# Altium integrated library Analog Devices Data Converters Analog-to-Digital Converters.IntLib: 2400 symbols (part 336 of 338)
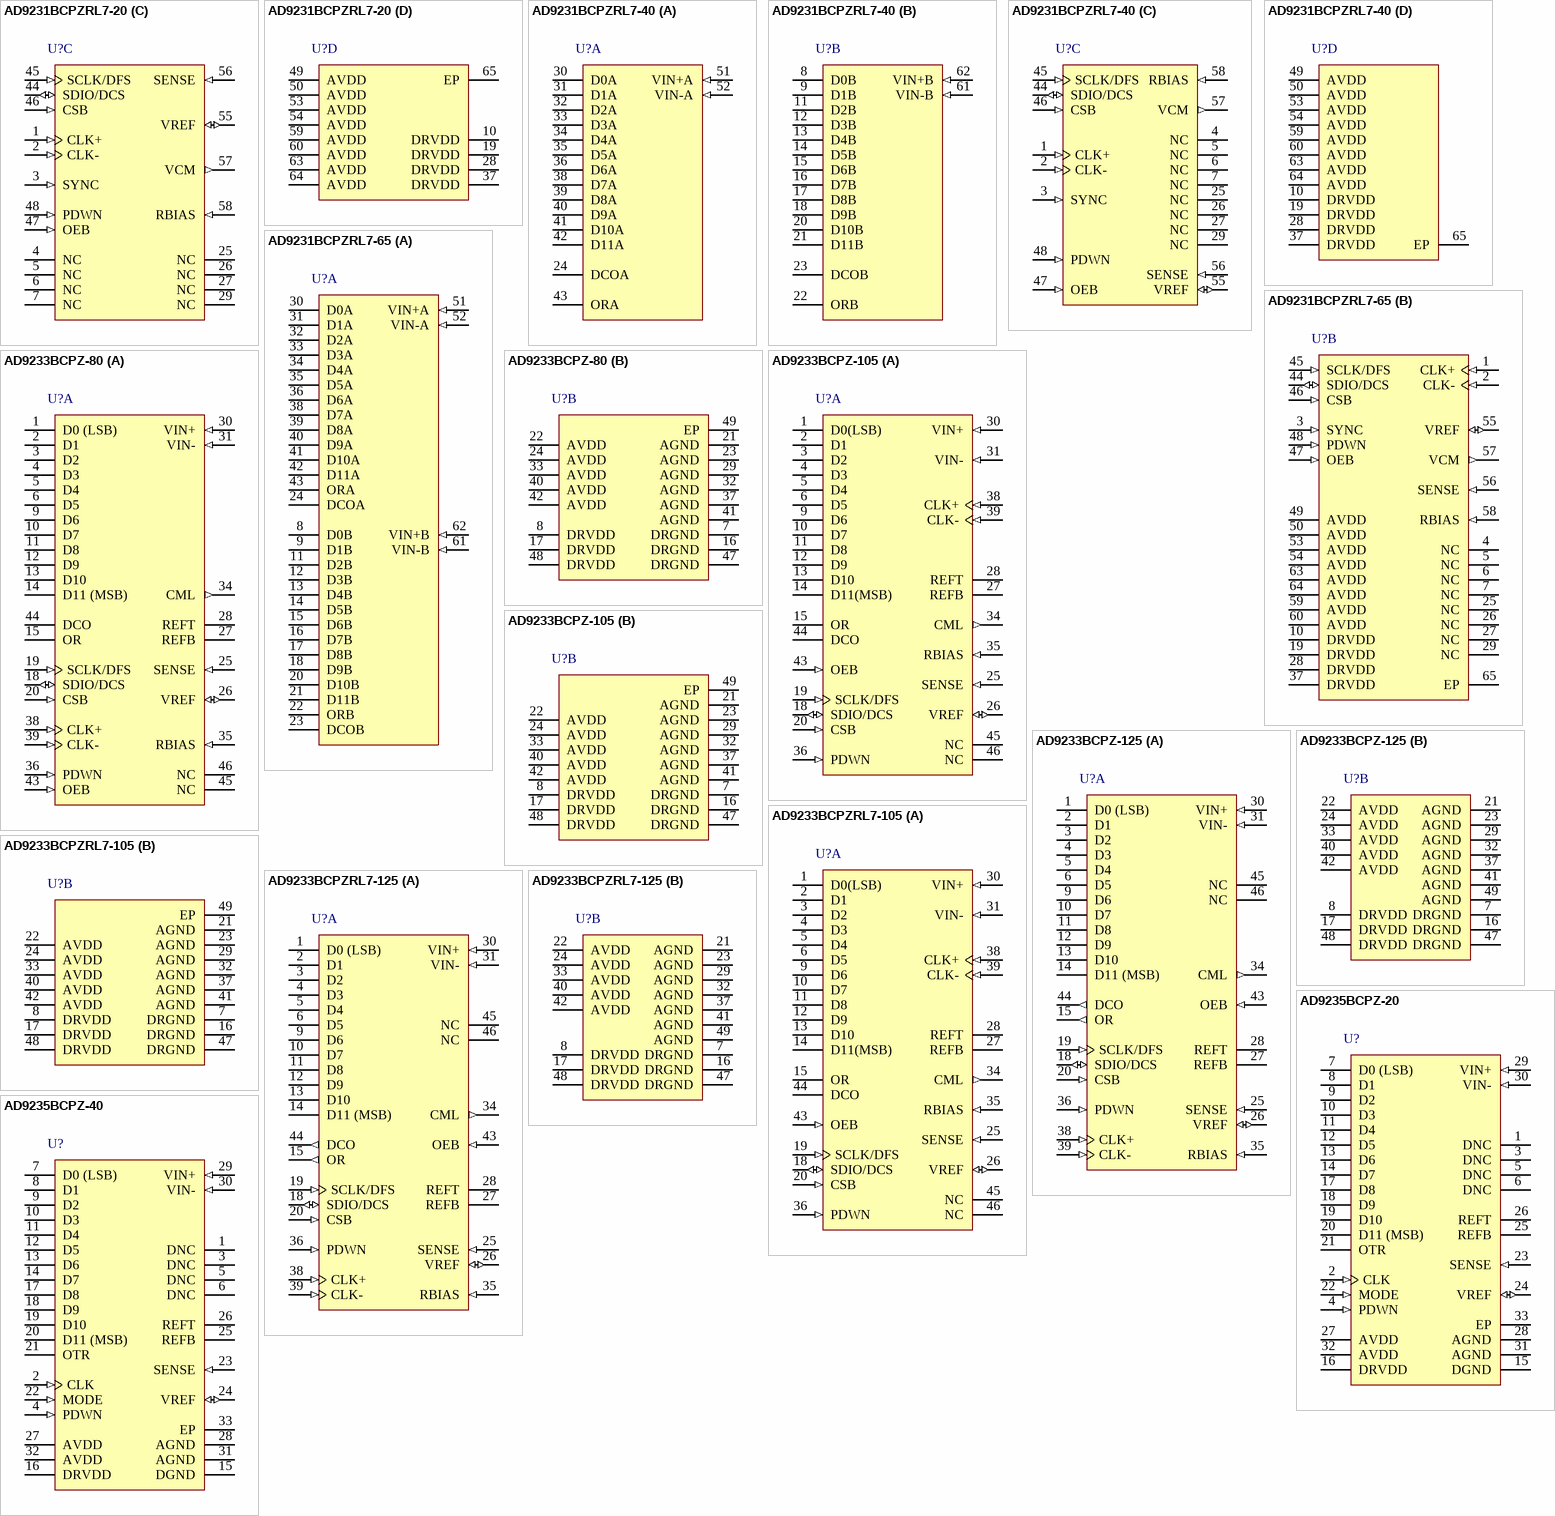
[diagram p437: symbols AD9231BCPZRL7-20 to AD9235BCPZ-40]

## AD9233BCPZRL7-105
designator U?
Single 12-Bit Analog-to-Digital Converter with Parallel Interface, 1.8 V, 105MSPS, -40 to +85 degC, CP-48-3, Pb-Free, Reel; Part Number: AD9233-105; Manufacturer: Analog Devices; Resolution (Bits): 12; Channels: 1; Throughput Rate (SPS): 105M; Interface: Par; DatasheetVersion: Rev.A; PackageVersion: 2005; PackageReference: CP-48-3; PackageDescription: 48-Lead Lead Frame Chip Scale Package [LFCSP_VQ] 7 x 7 mm Body, Very Thin Quad; RoHS: Y; Packing: Reel; Mounting Technology: Surface Mount; Code_JEDEC: MO-220-VKKD-2; ComponentLink1Description: Manufacturer URL; ComponentLink1URL: http://www.analog.com/en/index.html; ComponentLink2Description: Datasheet; ComponentLink2URL: http://www.analog.com/static/imported-files/data_sheets/AD9233.pdf; ComponentLink3Description: Package Specification; ComponentLink3URL: http://www.analog.com/static/imported-files/packages/32365178961902CP_48_3.pdf; ComponentLink4Description: Product URL; ComponentLink4URL: http://www.analog.com/en/analog-to-digital-converters/ad-converters/ad9233/products/product.html
footprint CP-48-3_N (QFN, 48-Leads, Body 7x7mm, Pitch 0.5mm, Thermal Pad 4.1x4.1mm, IPC Medium Density)
footprint CP-48-3_L (QFN, 48-Leads, Body 7x7mm, Pitch 0.5mm, Thermal Pad 4.1x4.1mm, IPC High Density)
footprint CP-48-3_M (QFN, 48-Leads, Body 7x7mm, Pitch 0.5mm, Thermal Pad 4.1x4.1mm, IPC Low Density)
part A pins: 1 D0(LSB) (hiz) "Data Output Bits.", 2 D1 (hiz) "Data Output Bits.", 3 D2 (hiz) "Data Output Bits.", 4 D3 (hiz) "Data Output Bits.", 5 D4 (hiz) "Data Output Bits.", 6 D5 (hiz) "Data Output Bits.", 9 D6 (hiz) "Data Output Bits.", 10 D7 (hiz) "Data Output Bits.", 11 D8 (hiz) "Data Output Bits.", 12 D9 (hiz) "Data Output Bits.", 13 D10 (hiz) "Data Output Bits.", 14 D11(MSB) (hiz) "Data Output Bits.", 15 OR (hiz) "Out-of-Range Indicator.", 18 SDIO/DCS (io) "Serial Port Interface (SPI)?Data Input/Output (Serial Port Mode); Duty Cycle Stabilizer Select (External Pin Mode). See Table 10.", 19 SCLK/DFS (in) "SPI Clock (Serial Port Mode); Data Format Select Pin (External Pin Mode). See Table 10.", 20 CSB (in) "SPI Chip Select (Active Low).", 25 SENSE (in) "Reference Mode Selection. See Table 9.", 26 VREF (io) "Voltage Reference Input/Output.", 27 REFB "Differential Reference (-).", 28 REFT "Differential Reference (+).", 30 VIN+ (in) "Analog Input Pin (+).", 31 VIN- (in) "Analog Input Pin (-).", 34 CML (out) "Common-Mode Level Bias Output.", 35 RBIAS (in) "External Bias Resister Connection. A 10 kO resister must be connected between this pin and analog ground (AGND).", 36 PDWN (in) "Power-Down Function Select.", 38 CLK+ (in) "Clock Input (+).", 39 CLK- (in) "Clock Input (-).", 43 OEB (in) "Output Enable (Active Low).", 44 DCO (hiz) "Data Clock Output.", 45 NC "No Connection.", 46 NC "No Connection."
part B pins: 7 DRGND (power) "Digital Output Ground.", 8 DRVDD (power) "Digital Output Driver Supply (1.8 V to 3.3 V).", 16 DRGND (power) "Digital Output Ground.", 17 DRVDD (power) "Digital Output Driver Supply (1.8 V to 3.3 V).", 21 AGND (power) "Analog Ground.", 22 AVDD (power) "Analog Power Supply.", 23 AGND (power) "Analog Ground.", 24 AVDD (power) "Analog Power Supply.", 29 AGND (power) "Analog Ground.", 32 AGND (power) "Analog Ground", 33 AVDD (power) "Analog Power Supply.", 37 AGND (power) "Analog Ground.", 40 AVDD (power) "Analog Power Supply.", 41 AGND (power) "Analog Ground", 42 AVDD (power) "Analog Power Supply.", 47 DRGND (power) "Digital Output Ground.", 48 DRVDD (power) "Digital Output Driver Supply (1.8 V to 3.3 V).", 49 EP (power) "Analog Ground."

## AD9233BCPZRL7-125
designator U?
Single 12-Bit Analog-to-Digital Converter with Parallel Interface, 1.8 V 125MSPS, -40 to +85 degC, CP-48-3, Pb-Free, Reel; Part Number: AD9233-125; Manufacturer: Analog Devices; Resolution (Bits): 12; Channels: 1; Throughput Rate (SPS): 125M; Interface: Par; DatasheetVersion: Rev.A; PackageVersion: 2005; PackageReference: CP-48-3; PackageDescription: 48-Lead Lead Frame Chip Scale Package [LFCSP_VQ] 7 x 7 mm Body, Very Thin Quad; RoHS: Y; Packing: Reel; Mounting Technology: Surface Mount; Code_JEDEC: MO-220-VKKD-2; ComponentLink1Description: Manufacturer URL; ComponentLink1URL: http://www.analog.com/en/index.html; ComponentLink2Description: Datasheet; ComponentLink2URL: http://www.analog.com/static/imported-files/data_sheets/AD9233.pdf; ComponentLink3Description: Package Specification; ComponentLink3URL: http://www.analog.com/static/imported-files/packages/32365178961902CP_48_3.pdf; ComponentLink4Description: Product URL; ComponentLink4URL: http://www.analog.com/en/analog-to-digital-converters/ad-converters/ad9233/products/product.html
footprint CP-48-3_N (QFN, 48-Leads, Body 7x7mm, Pitch 0.5mm, Thermal Pad 4.1x4.1mm, IPC Medium Density)
footprint CP-48-3_L (QFN, 48-Leads, Body 7x7mm, Pitch 0.5mm, Thermal Pad 4.1x4.1mm, IPC High Density)
footprint CP-48-3_M (QFN, 48-Leads, Body 7x7mm, Pitch 0.5mm, Thermal Pad 4.1x4.1mm, IPC Low Density)
part A pins: 1 D0 (LSB) (hiz) "Data Output Bits", 2 D1 (hiz) "Data Output Bits", 3 D2 (hiz) "Data Output Bits", 4 D3 (hiz) "Data Output Bits", 5 D4 (hiz) "Data Output Bits", 6 D5 (hiz) "Data Output Bits", 9 D6 (hiz) "Data Output Bits", 10 D7 (hiz) "Data Output Bits", 11 D8 (hiz) "Data Output Bits", 12 D9 (hiz) "Data Output Bits", 13 D10 (hiz) "Data Output Bits", 14 D11 (MSB) (hiz) "Data Output Bits", 15 OR (out) "Out-of-Range Indicator.", 18 SDIO/DCS (io) "Serial Port Interface (SPI) Data Input/Output (Serial Port Mode); Duty Cycle Stabilizer Select (External Pin Mode). See Table 10.", 19 SCLK/DFS (in) "SPI Clock (Serial Port Mode); Data Format Select Pin (External Pin Mode). See Table 10.", 20 CSB (in) "SPI Chip Select (Active Low)", 25 SENSE (in) "Reference Mode Selection. See Table 9", 26 VREF (io) "Voltage Reference Input/Output.", 27 REFB "Differential Reference (-).", 28 REFT "Differential Reference (+).", 30 VIN+ (in) "Analog Input Pin (+).", 31 VIN- (in) "Analog Input Pin (-).", 34 CML (out) "Common-Mode Level Bias Output.", 35 RBIAS (in) "External Bias Resister Connection. A 10 kO resister must be connected between this pin and analog ground (AGND).", 36 PDWN (in) "Power-Down Function Select.", 38 CLK+ (in) "Clock Input (+).", 39 CLK- (in) "Clock Input (-).", 43 OEB (in) "Output Enable (Active Low).", 44 DCO (out) "Analog Ground. (Pin 0 is the exposed thermal pad on the bottom of the package.)", 45 NC "No Connection.", 46 NC "No Connection."
part B pins: 7 DRGND (power) "Digital Output Ground.", 8 DRVDD (power) "Digital Output Driver Supply (1.8 V to 3.3 V).", 16 DRGND (power) "Digital Output Ground.", 17 DRVDD (power) "Digital Output Driver Supply (1.8 V to 3.3 V).", 21 AGND (power) "Analog Ground. (Pin 0 is the exposed thermal pad on the bottom of the package.)", 22 AVDD (power) "Analog Power Supply", 23 AGND (power) "Analog Ground. (Pin 0 is the exposed thermal pad on the bottom of the package.)", 24 AVDD (power) "Analog Power Supply", 29 AGND (power) "Analog Ground. (Pin 0 is the exposed thermal pad on the bottom of the package.)", 32 AGND (power) "Analog Ground. (Pin 0 is the exposed thermal pad on the bottom of the package.)", 33 AVDD (power) "Analog Power Supply", 37 AGND (power) "Analog Ground. (Pin 0 is the exposed thermal pad on the bottom of the package.)", 40 AVDD (power) "Analog Power Supply", 41 AGND (power) "Analog Ground. (Pin 0 is the exposed thermal pad on the bottom of the package.)", 42 AVDD (power) "Analog Power Supply", 47 DRGND (power) "Digital Output Ground.", 48 DRVDD (power) "Digital Output Driver Supply (1.8 V to 3.3 V).", 49 AGND (power) "Analog Ground. (Pin 0 is the exposed thermal pad on the bottom of the package.)"

## AD9235BCPZ-20
designator U?
Single 12-Bit Analog-to-Digital Converter with Parallel Interface, 20MSPS, -40 to +85 degC, CP-32-2, Pb-Free, Tray; Part Number: AD9235-20; Manufacturer: Analog Devices; Resolution (Bits): 12; Channels: 1; Throughput Rate (SPS): 20M; Interface: Par; DatasheetVersion: Rev.C; PackageVersion: Jan-2005; PackageReference: CP-32-2; PackageDescription: 32-Lead Lead Frame Chip Scale Package [LFCSP_VQ] 5 x 5 mm Body, Very Thin Quad; RoHS: Y; Packing: Tray; Mounting Technology: Surface Mount; Code_JEDEC: MO-220-VHHD-2; ComponentLink1Description: Manufacturer URL; ComponentLink1URL: http://www.analog.com/en/index.html; ComponentLink2Description: Datasheet; ComponentLink2URL: http://www.analog.com/static/imported-files/data_sheets/AD9235.pdf; ComponentLink3Description: Package Specification; ComponentLink3URL: http://www.analog.com/static/imported-files/packages/414143737956480539664569CP_32_2.pdf; ComponentLink4Description: Product URL; ComponentLink4URL: http://www.analog.com/en/analog-to-digital-converters/ad-converters/ad9235/products/product.html
footprint CP-32-2_N (QFN, 32-Leads, Body 5x5mm, Pitch 0.5mm, Thermal Pad 3.1x3.1mm, IPC Medium Density)
footprint CP-32-2_L (QFN, 32-Leads, Body 5x5mm, Pitch 0.5mm, Thermal Pad 3.1x3.1mm, IPC High Density)
footprint CP-32-2_M (QFN, 32-Leads, Body 5x5mm, Pitch 0.5mm, Thermal Pad 3.1x3.1mm, IPC Low Density)
pins: 1 DNC "Do Not Connect.", 2 CLK (in) "Clock Input Pin.", 3 DNC "Do Not Connect.", 4 PDWN (in) "Power-Down Function Selection (Active High).", 5 DNC "Do Not Connect.", 6 DNC "Do Not Connect.", 7 D0 (LSB) (hiz) "Data Output Bits.", 8 D1 (hiz) "Data Output Bits.", 9 D2 (hiz) "Data Output Bits.", 10 D3 (hiz) "Data Output Bits.", 11 D4 (hiz) "Data Output Bits.", 12 D5 (hiz) "Data Output Bits.", 13 D6 (hiz) "Data Output Bits.", 14 D7 (hiz) "Data Output Bits.", 15 DGND (power) "Digital Output Ground.", 16 DRVDD (power) "Digital Output Driver Supply. Must be decoupled to DGND with a minimum. 0.1 uF capacitor. Recommended decoupling is 0.1 uF in parallel with 10 uF.", 17 D8 (hiz) "Data Output Bits.", 18 D9 (hiz) "Data Output Bits.", 19 D10 (hiz) "Data Output Bits.", 20 D11 (MSB) (hiz) "Data Output Bits.", 21 OTR (hiz) "Out-of-Range Indicator.", 22 MODE (in) "Data Format and Clock Duty Cycle Stabilizer (DCS) Mode Selection.", 23 SENSE (in) "Reference Mode Selection.", 24 VREF (io) "Voltage Reference Input/Output.", 25 REFB "Differential Reference (-).", 26 REFT "Differential Reference (+).", 27 AVDD (power) "Analog Power Supply.", 28 AGND (power) "Analog Ground.", 29 VIN+ (in) "Analog Input Pin (+).", 30 VIN- (in) "Analog Input Pin (-).", 31 AGND (power) "Analog Ground.", 32 AVDD (power) "Analog Power Supply.", 33 EP (power) "Exposed pad."

## AD9235BCPZ-40
designator U?
Single 12-Bit Analog-to-Digital Converter with Parallel Interface, 40MSPS, -40 to +85 degC, CP-32-2, Pb-Free, Tray; Part Number: AD9235-40; Manufacturer: Analog Devices; Resolution (Bits): 12; Channels: 1; Throughput Rate (SPS): 20M; Interface: Par; DatasheetVersion: Rev.C; PackageVersion: Jan-2005; PackageReference: CP-32-2; PackageDescription: 32-Lead Lead Frame Chip Scale Package [LFCSP_VQ] 5 x 5 mm Body, Very Thin Quad; RoHS: Y; Packing: Tray; Mounting Technology: Surface Mount; Code_JEDEC: MO-220-VHHD-2; ComponentLink1Description: Manufacturer URL; ComponentLink1URL: http://www.analog.com/en/index.html; ComponentLink2Description: Datasheet; ComponentLink2URL: http://www.analog.com/static/imported-files/data_sheets/AD9235.pdf; ComponentLink3Description: Package Specification; ComponentLink3URL: http://www.analog.com/static/imported-files/packages/414143737956480539664569CP_32_2.pdf; ComponentLink4Description: Product URL; ComponentLink4URL: http://www.analog.com/en/analog-to-digital-converters/ad-converters/ad9235/products/product.html
footprint CP-32-2_N (QFN, 32-Leads, Body 5x5mm, Pitch 0.5mm, Thermal Pad 3.1x3.1mm, IPC Medium Density)
footprint CP-32-2_L (QFN, 32-Leads, Body 5x5mm, Pitch 0.5mm, Thermal Pad 3.1x3.1mm, IPC High Density)
footprint CP-32-2_M (QFN, 32-Leads, Body 5x5mm, Pitch 0.5mm, Thermal Pad 3.1x3.1mm, IPC Low Density)
pins: 1 DNC "Do Not Connect.", 2 CLK (in) "Clock Input Pin.", 3 DNC "Do Not Connect.", 4 PDWN (in) "Power-Down Function Selection (Active High).", 5 DNC "Do Not Connect.", 6 DNC "Do Not Connect.", 7 D0 (LSB) (hiz) "Data Output Bits.", 8 D1 (hiz) "Data Output Bits.", 9 D2 (hiz) "Data Output Bits.", 10 D3 (hiz) "Data Output Bits.", 11 D4 (hiz) "Data Output Bits.", 12 D5 (hiz) "Data Output Bits.", 13 D6 (hiz) "Data Output Bits.", 14 D7 (hiz) "Data Output Bits.", 15 DGND (power) "Digital Output Ground.", 16 DRVDD (power) "Digital Output Driver Supply. Must be decoupled to DGND with a minimum.0.1 uF capacitor. Recommended decoupling is 0.1 uF in parallel with 10 uF.", 17 D8 (hiz) "Data Output Bits.", 18 D9 (hiz) "Data Output Bits.", 19 D10 (hiz) "Data Output Bits.", 20 D11 (MSB) (hiz) "Data Output Bits.", 21 OTR (hiz) "Out-of-Range Indicator.", 22 MODE (in) "Data Format and Clock Duty Cycle Stabilizer (DCS) Mode Selection.", 23 SENSE (in) "Reference Mode Selection.", 24 VREF (io) "Voltage Reference Input/Output.", 25 REFB "Differential Reference (-).", 26 REFT "Differential Reference (+).", 27 AVDD (power) "Analog Power Supply.", 28 AGND (power) "Analog Ground.", 29 VIN+ (in) "Analog Input Pin (+).", 30 VIN- (in) "Analog Input Pin (-).", 31 AGND (power) "Analog Ground.", 32 AVDD (power) "Analog Power Supply.", 33 EP (power) "Exposed paddle"

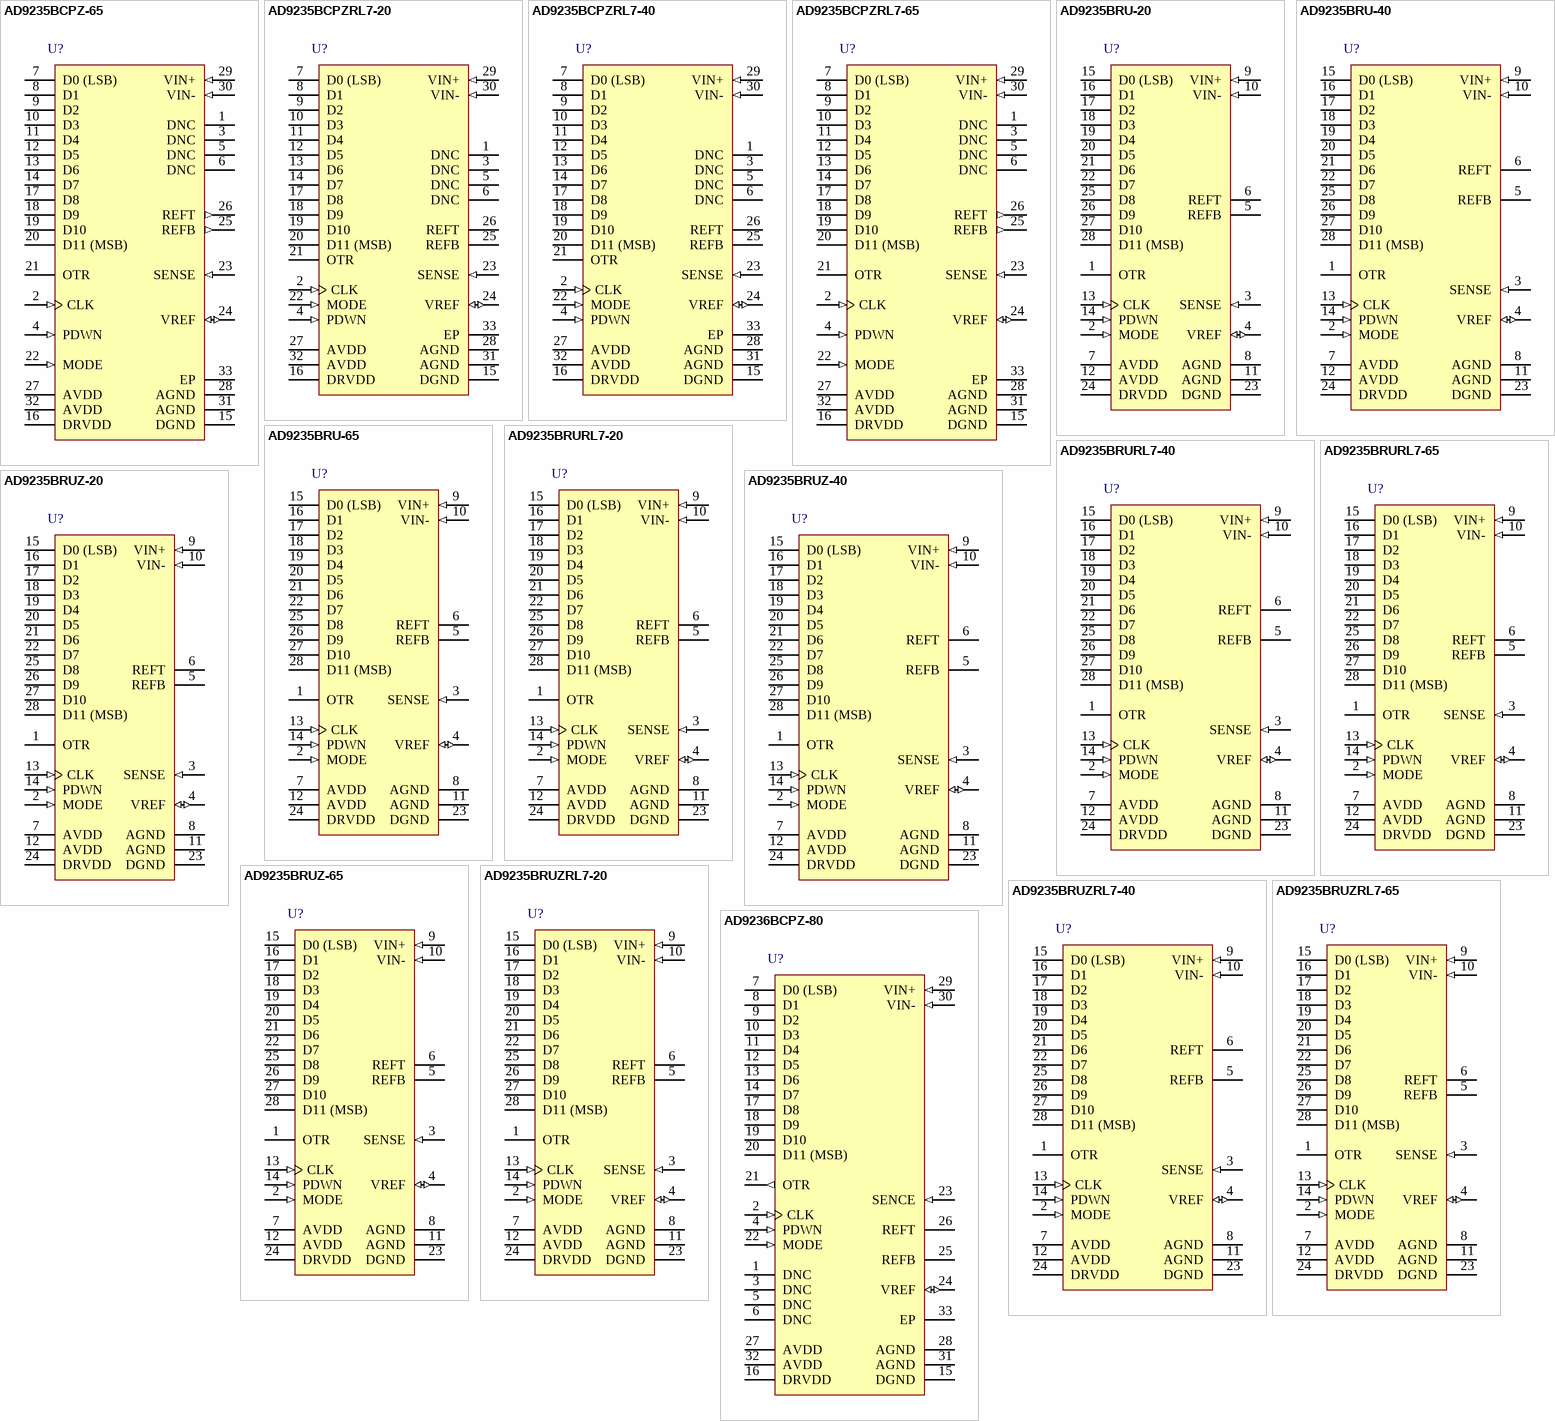
[diagram p109: symbols AD9235BCPZ-65 to AD9236BCPZ-80]